# EAGLE library part ADUM5411_SSOP (library jonsowman)
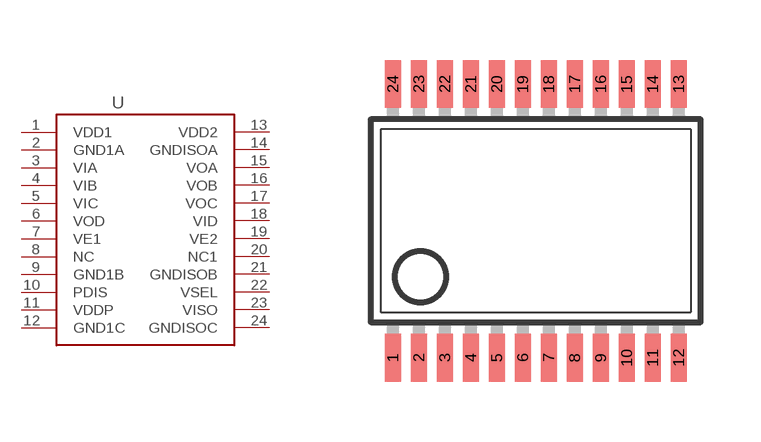
[diagram p21: symbol with the pads of SSOP24; footprint SSOP24]

Designator prefix -

## ADUM5411_SSOP  [SSOP24]
1  VDD1  pwr
2  GND1A  pwr
3  VIA  in
4  VIB  in
5  VIC  in
6  VOD  out
7  VE1
8  NC  nc
9  GND1B  pwr
10  PDIS
11  VDDP  pwr
12  GND1C  pwr
13  VDD2  pwr
14  GNDISOA  pwr
15  VOA  out
16  VOB  out
17  VOC  out
18  VID  in
19  VE2
20  NC1  nc
21  GNDISOB  pwr
22  VSEL
23  VISO  pwr
24  GNDISOC  pwr

## Footprint SSOP24 (pad centres in mm)
Small Shrink Outline Package SOT340-1 / JEDEC MO-150AG
smd 0.4 x 1.2: 1 -3.575,-3.42; 2 -2.925,-3.42; 3 -2.275,-3.42; 4 -1.625,-3.42; 5 -0.975,-3.42; 6 -0.325,-3.42; 7 0.325,-3.42; 8 0.975,-3.42; 9 1.625,-3.42; 10 2.275,-3.42; 11 2.925,-3.42; 12 3.575,-3.42; 13 3.575,3.42; 14 2.925,3.42; 15 2.275,3.42; 16 1.625,3.42; 17 0.975,3.42; 18 0.325,3.42; 19 -0.325,3.42; 20 -0.975,3.42; 21 -1.625,3.42; 22 -2.275,3.42; 23 -2.925,3.42; 24 -3.575,3.42